# Altium schematic symbol library Memory_Flash.SchLib: 52 symbols
Pins are listed as number, name and electrical type; pins without a type are passive.

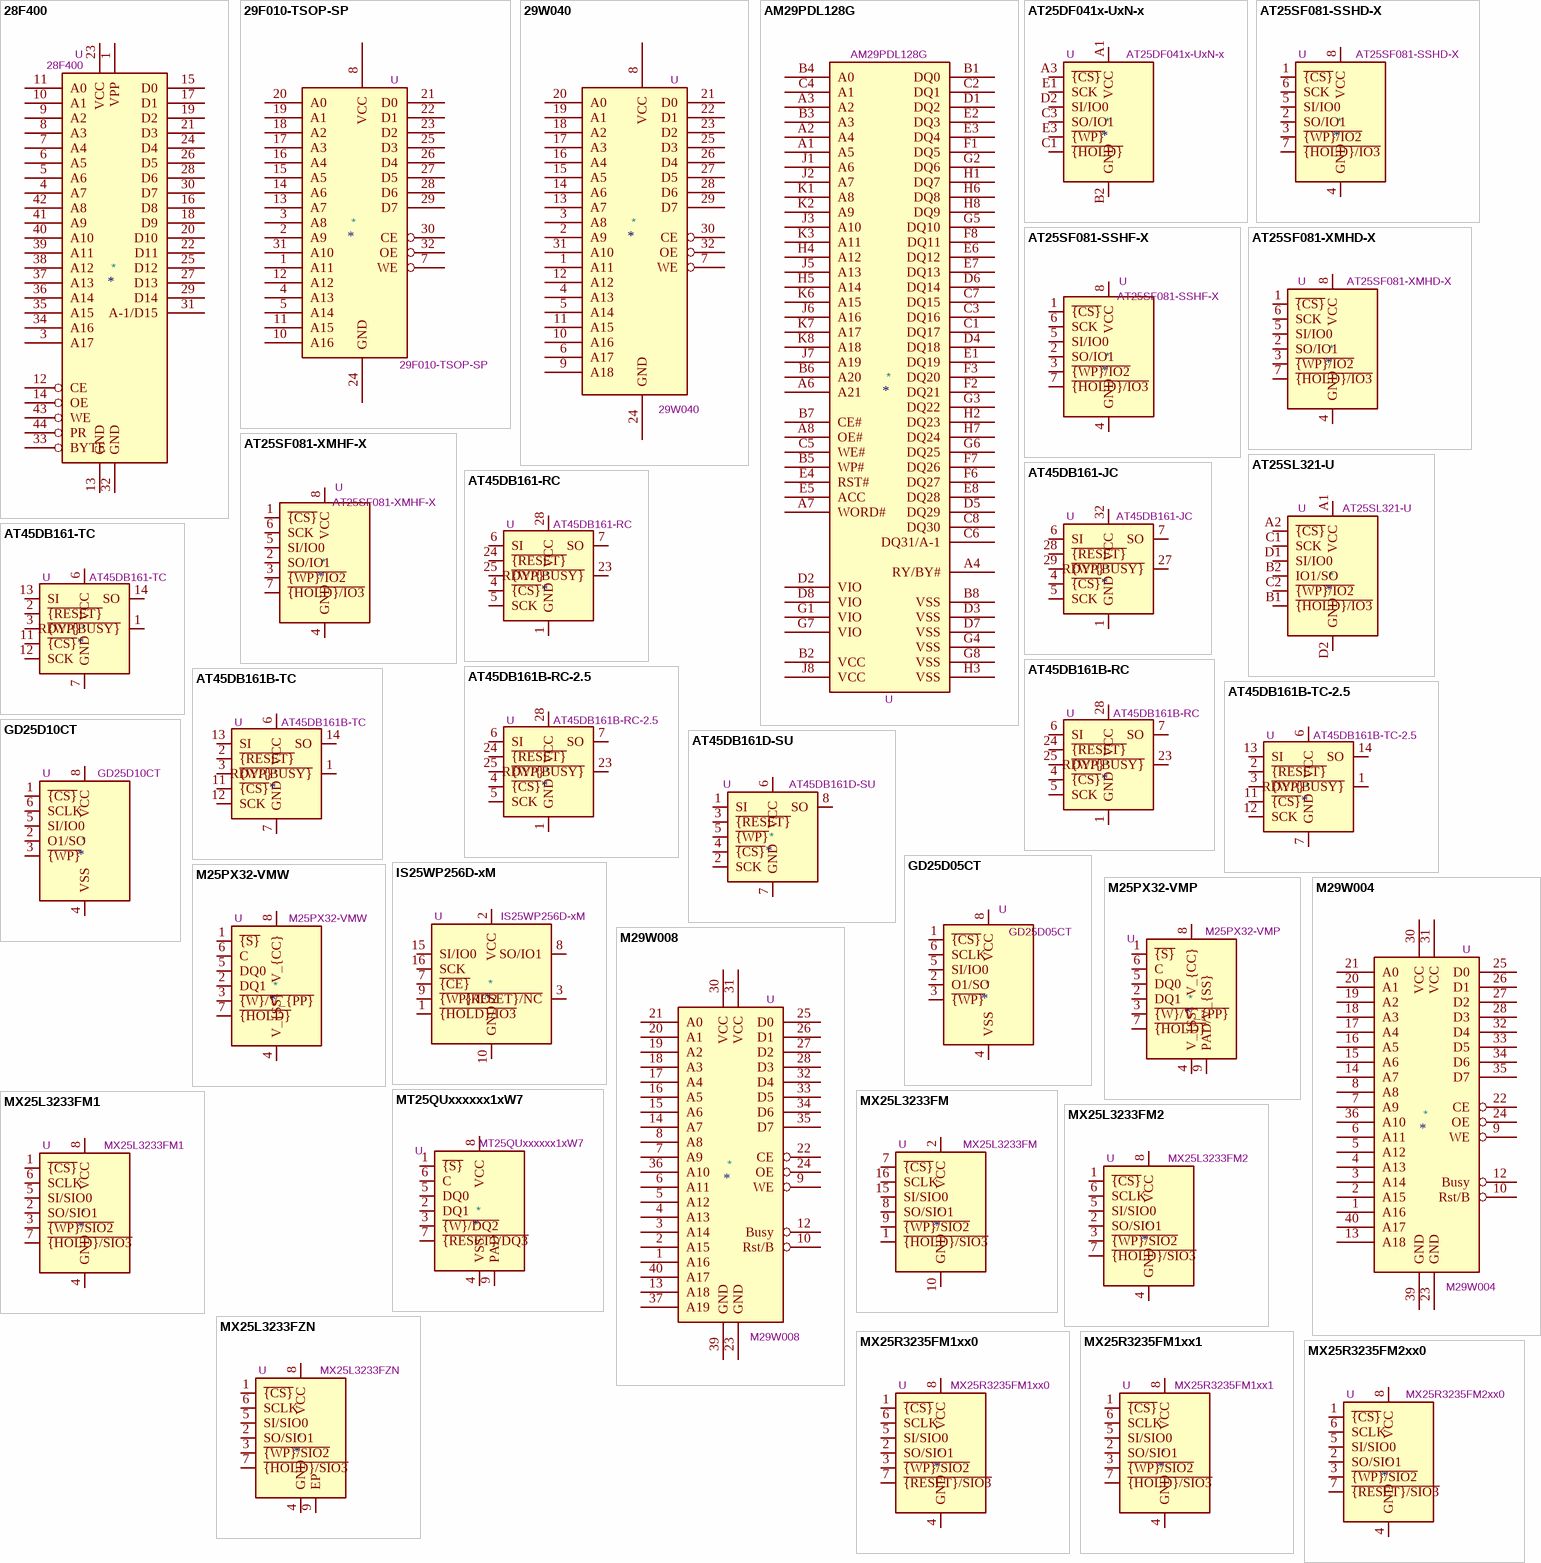
[diagram p0: symbols 28F400 to MX25R3235FM2xx0]

## 28F400
designator *  value 28F400  Reference: U
ki_keywords: EEPROM FLASH 4MO; ki_description: PA28F400BX-T/B Flash EEProm 4-MBIT (256Kx16bits, 512Kx8bits) 5V, 12V Prog; ki_fp_filters: PSOP*; Footprint: Package_SO:PSOP-44_16.9x27.17mm_P1.27mm; Datasheet: http://download.intel.com/design/archives/flash/docs/29045101.pdf
pins: 1 VPP, 2 DU hidden, 3 A17, 4 A7, 5 A6, 6 A5, 7 A4, 8 A3, 9 A2, 10 A1, 11 A0, 12 CE, 13 GND, 14 OE, 15 D0, 16 D8, 17 D1, 18 D9, 19 D2, 20 D10, 21 D3, 22 D11, 23 VCC, 24 D4, 25 D12, 26 D5, 27 D13, 28 D6, 29 D14, 30 D7, 31 A-1/D15, 32 GND, 33 BYTE, 34 A16, 35 A15, 36 A14, 37 A13, 38 A12, 39 A11, 40 A10, 41 A9, 42 A8, 43 WE, 44 PR

## 29F010-TSOP-SP
designator *  value 29F010-TSOP-SP  Reference: U
ki_keywords: EEPROM FLASH 128KO; ki_description: Flash EEProm 128Ko (TSOP 32 pack.) 5V prog
pins: 1 A11, 2 A9, 3 A8, 4 A13, 5 A14, 7 WE, 8 VCC, 10 A16, 11 A15, 12 A12, 13 A7, 14 A6, 15 A5, 16 A4, 17 A3, 18 A2, 19 A1, 20 A0, 21 D0, 22 D1, 23 D2, 24 GND, 25 D3, 26 D4, 27 D5, 28 D6, 29 D7, 30 CE, 31 A10, 32 OE

## 29W040
designator *  value 29W040  Reference: U
ki_keywords: EEPROM FLASH 512KO; ki_description: Flash EEProm 512PP (TSOP 32) 3,3V
pins: 1 A11, 2 A9, 3 A8, 4 A13, 5 A14, 6 A17, 7 WE, 8 VCC, 9 A18, 10 A16, 11 A15, 12 A12, 13 A7, 14 A6, 15 A5, 16 A4, 17 A3, 18 A2, 19 A1, 20 A0, 21 D0, 22 D1, 23 D2, 24 GND, 25 D3, 26 D4, 27 D5, 28 D6, 29 D7, 30 CE, 31 A10, 32 OE

## AM29PDL128G
designator *  value AM29PDL128G  Reference: U
ki_description: 128 Megabit (8 M x 16-Bit/4 M x 32-Bit), Simultaneous Operation Flash Memory with VersatileIO™ Control; ki_fp_filters: BGA80_1mm_15X10
pins: A1 A5, A2 A4, A3 A2, A4 RY/BY#, A6 A21, A7 WORD#, A8 OE#, B1 DQ0, B2 VCC, B3 A3, B4 A0, B5 WP#, B6 A20, B7 CE#, B8 VSS, C1 DQ17, C2 DQ1, C3 DQ16, C4 A1, C5 WE#, C6 DQ31/A-1, C7 DQ15, C8 DQ30, D1 DQ2, D2 VIO, D3 VSS, D4 DQ18, D5 DQ29, D6 DQ14, D7 VSS, D8 VIO, E1 DQ19, E2 DQ3, E3 DQ4, E4 RST#, E5 ACC, E6 DQ12, E7 DQ13, E8 DQ28, F1 DQ5, F2 DQ21, F3 DQ20, F6 DQ27, F7 DQ26, F8 DQ11, G1 VIO, G2 DQ6, G3 DQ22, G4 VSS, G5 DQ10, G6 DQ25, G7 VIO, G8 VSS, H1 DQ7, H2 DQ23, H3 VSS, H4 A12, H5 A14, H6 DQ8, H7 DQ24, H8 DQ9, J1 A6, J2 A7, J3 A10, J5 A13, J6 A16, J7 A19, J8 VCC, K1 A8, K2 A9, K3 A11, K6 A15, K7 A17, K8 A18

## AT25DF041x-UxN-x
designator *  value AT25DF041x-UxN-x  Reference: U
ki_keywords: SPI DSPI 4Mbit 1.65V; ki_description: 4-Mbit, 1.65V Minimum SPI Serial Flash Memory with Dual-I/O, WLCSP-8; ki_fp_filters: WLCSP?8*1.58x1.63*Layout3x5*P0.35x0.4mm*Ball0.25mm*; Footprint: Package_CSP:WLCSP-8_1.58x1.63x0.35mm_Layout3x5_P0.35x0.4mm_Ball0.25mm_Pad0.25mm_NSMD; Datasheet: http://www.adestotech.com/wp-content/uploads/DS-AT25DF041B_040.pdf
pins: A1 VCC, A3 ~{{CS}}, B2 GND, C1 ~{{HOLD}}, C3 SO/IO1, D2 SI/IO0, E1 SCK, E3 ~{{WP}}

## AT25SF081-SSHD-X
designator *  value AT25SF081-SSHD-X  Reference: U
ki_keywords: SPI DSPI QSPI 8Mbit 2.5V; ki_description: 8-Mbit, 2.5V Minimum SPI Serial Flash Memory with Dual-I/O and Quad-I/O Support, SOIC-8; ki_fp_filters: SOIC?8*3.9x4.9mm*P1.27mm*; Footprint: Package_SO:SOIC-8_3.9x4.9mm_P1.27mm; Datasheet: https://www.adestotech.com/wp-content/uploads/DS-AT25SF081_045.pdf
pins: 1 ~{{CS}}, 2 SO/IO1, 3 ~{{WP}/IO2}, 4 GND, 5 SI/IO0, 6 SCK, 7 ~{{HOLD}/IO3}, 8 VCC

## AT25SF081-SSHF-X
designator *  value AT25SF081-SSHF-X  Reference: U
ki_keywords: SPI DSPI QSPI 8Mbit 2.3V; ki_description: 8-Mbit, 2.3V Minimum SPI Serial Flash Memory with Dual-I/O and Quad-I/O Support, SOIC-8; ki_fp_filters: SOIC?8*3.9x4.9mm*P1.27mm*; Footprint: Package_SO:SOIC-8_3.9x4.9mm_P1.27mm; Datasheet: https://www.adestotech.com/wp-content/uploads/DS-AT25SF081_045.pdf
pins: 1 ~{{CS}}, 2 SO/IO1, 3 ~{{WP}/IO2}, 4 GND, 5 SI/IO0, 6 SCK, 7 ~{{HOLD}/IO3}, 8 VCC

## AT25SF081-XMHD-X
designator *  value AT25SF081-XMHD-X  Reference: U
ki_keywords: SPI DSPI QSPI 8Mbit 2.5V; ki_description: 8-Mbit, 2.5V Minimum SPI Serial Flash Memory with Dual-I/O and Quad-I/O Support, TSSOP-8; ki_fp_filters: TSSOP?8*4.4x3mm*P0.65mm*; Footprint: Package_SO:TSSOP-8_4.4x3mm_P0.65mm; Datasheet: https://www.adestotech.com/wp-content/uploads/DS-AT25SF081_045.pdf
pins: 1 ~{{CS}}, 2 SO/IO1, 3 ~{{WP}/IO2}, 4 GND, 5 SI/IO0, 6 SCK, 7 ~{{HOLD}/IO3}, 8 VCC

## AT25SF081-XMHF-X
designator *  value AT25SF081-XMHF-X  Reference: U
ki_keywords: SPI DSPI QSPI 8Mbit 2.3V; ki_description: 8-Mbit, 2.3V Minimum SPI Serial Flash Memory with Dual-I/O and Quad-I/O Support, TSSOP-8; ki_fp_filters: TSSOP?8*4.4x3mm*P0.65mm*; Footprint: Package_SO:TSSOP-8_4.4x3mm_P0.65mm; Datasheet: https://www.adestotech.com/wp-content/uploads/DS-AT25SF081_045.pdf
pins: 1 ~{{CS}}, 2 SO/IO1, 3 ~{{WP}/IO2}, 4 GND, 5 SI/IO0, 6 SCK, 7 ~{{HOLD}/IO3}, 8 VCC

## AT25SL321-U
designator *  value AT25SL321-U  Reference: U
ki_keywords: SPI DSPI QSPI 32Mbit 1.7V; ki_description: 32-Mbit, 1.7V 2.5V Minimum SPI Serial Flash Memory with Dual-I/O and Quad-I/O Support, WLCSP-8; ki_fp_filters: WLCSP*1.551x2.284mm*P0.5mm*; Footprint: Package_CSP:WLCSP-8_1.551x2.284mm_P0.5mm; Datasheet: https://www.adestotech.com/wp-content/uploads/AT25SL321_112.pdf
pins: A1 VCC, A2 ~{{CS}}, B1 ~{{HOLD}/IO3}, B2 IO1/SO, C1 SCK, C2 ~{{WP}/IO2}, D1 SI/IO0, D2 GND

## AT45DB161-JC
designator *  value AT45DB161-JC  Reference: U
ki_keywords: Atmel DataFlash; ki_description: 16Mb Serial DataFlash, 2.7V Vcc, PLCC-32; ki_fp_filters: PLCC?32*11.4x14.0mm*P1.27mm*; Footprint: Package_LCC:PLCC-32_11.4x14.0mm_P1.27mm; Datasheet: http://ww1.microchip.com/downloads/en/devicedoc/doc0807.pdf
pins: 1 GND, 4 ~{{CS}}, 5 SCK, 6 SI, 7 SO, 27 RDY/~{{BUSY}}, 28 ~{{RESET}}, 29 ~{{WP}}, 32 VCC

## AT45DB161-RC
designator *  value AT45DB161-RC  Reference: U
ki_keywords: Atmel DataFlash; ki_description: 16Mb Serial DataFlash, 2.7V Vcc, SOIC-28; ki_fp_filters: SOIC?28*8.7x18.25mm*P1.27mm*; Footprint: Package_SO:SOIC-28W_8.7x18.25mm_P1.27mm; Datasheet: http://ww1.microchip.com/downloads/en/devicedoc/doc0807.pdf
pins: 1 GND, 4 ~{{CS}}, 5 SCK, 6 SI, 7 SO, 23 RDY/~{{BUSY}}, 24 ~{{RESET}}, 25 ~{{WP}}, 28 VCC

## AT45DB161-TC
designator *  value AT45DB161-TC  Reference: U
ki_keywords: Atmel DataFlash; ki_description: 16Mb Serial DataFlash, 2.7V Vcc, TSOP-28; ki_fp_filters: TSOP?28*11.8x8mm*P0.55mm*; Footprint: Package_SO:TSOP-28_11.8x8mm_P0.55mm; Datasheet: http://ww1.microchip.com/downloads/en/devicedoc/doc0807.pdf
pins: 1 RDY/~{{BUSY}}, 2 ~{{RESET}}, 3 ~{{WP}}, 6 VCC, 7 GND, 11 ~{{CS}}, 12 SCK, 13 SI, 14 SO

## AT45DB161B-RC
designator *  value AT45DB161B-RC  Reference: U
ki_keywords: Atmel DataFlash; ki_description: 16Mb Serial DataFlash, 2.7V Vcc, SOIC-28; ki_fp_filters: SOIC?28*8.7x18.25mm*P1.27mm*; Footprint: Package_SO:SOIC-28W_8.7x18.25mm_P1.27mm; Datasheet: http://ww1.microchip.com/downloads/en/devicedoc/doc2224.pdf
pins: 1 GND, 4 ~{{CS}}, 5 SCK, 6 SI, 7 SO, 23 RDY/~{{BUSY}}, 24 ~{{RESET}}, 25 ~{{WP}}, 28 VCC

## AT45DB161B-RC-2.5
designator *  value AT45DB161B-RC-2.5  Reference: U
ki_keywords: Atmel DataFlash; ki_description: 16Mb Serial DataFlash, 2.5V Vcc, SOIC-28; ki_fp_filters: SOIC?28*8.7x18.25mm*P1.27mm*; Footprint: Package_SO:SOIC-28W_8.7x18.25mm_P1.27mm; Datasheet: http://ww1.microchip.com/downloads/en/devicedoc/doc2224.pdf
pins: 1 GND, 4 ~{{CS}}, 5 SCK, 6 SI, 7 SO, 23 RDY/~{{BUSY}}, 24 ~{{RESET}}, 25 ~{{WP}}, 28 VCC

## AT45DB161B-TC
designator *  value AT45DB161B-TC  Reference: U
ki_keywords: Atmel DataFlash; ki_description: 16Mb Serial DataFlash, 2.7V Vcc, TSOP-28; ki_fp_filters: TSOP?28*11.8x8mm*P0.55mm*; Footprint: Package_SO:TSOP-28_11.8x8mm_P0.55mm; Datasheet: http://ww1.microchip.com/downloads/en/devicedoc/doc2224.pdf
pins: 1 RDY/~{{BUSY}}, 2 ~{{RESET}}, 3 ~{{WP}}, 6 VCC, 7 GND, 11 ~{{CS}}, 12 SCK, 13 SI, 14 SO

## AT45DB161B-TC-2.5
designator *  value AT45DB161B-TC-2.5  Reference: U
ki_keywords: Atmel DataFlash; ki_description: 16Mb Serial DataFlash, 2.5V Vcc, TSOP-28; ki_fp_filters: TSOP?28*11.8x8mm*P0.55mm*; Footprint: Package_SO:TSOP-28_11.8x8mm_P0.55mm; Datasheet: http://ww1.microchip.com/downloads/en/devicedoc/doc2224.pdf
pins: 1 RDY/~{{BUSY}}, 2 ~{{RESET}}, 3 ~{{WP}}, 6 VCC, 7 GND, 11 ~{{CS}}, 12 SCK, 13 SI, 14 SO

## AT45DB161D-SU
designator *  value AT45DB161D-SU  Reference: U
ki_keywords: Adesto Flash Memory DataFlash; ki_description: 16Mb Serial DataFlash, 2.5V Vcc, SOIC-8; ki_fp_filters: SOIC*P1.27mm*; Footprint: Package_SO:SOIC-8_5.275x5.275mm_P1.27mm; Datasheet: https://www.adestotech.com/wp-content/uploads/doc3500.pdf
pins: 1 SI, 2 SCK, 3 ~{{RESET}}, 4 ~{{CS}}, 5 ~{{WP}}, 6 VCC, 7 GND, 8 SO

## GD25D05CT
designator *  value GD25D05CT  Reference: U
ki_keywords: SPI DSPI QSPI 512Kbit 3.0V; ki_description: 512kbit, 3.0V Standard and Dual Serial Flash, SOP-8; ki_fp_filters: SOP*3.9x4.9mm*P1.27mm*; Footprint: Package_SO:SOP-8_3.9x4.9mm_P1.27mm; Datasheet: http://www.elm-tech.com/en/products/spi-flash-memory/gd25d10/gd25d10.pdf
pins: 1 ~{{CS}}, 2 O1/SO, 3 ~{{WP}}, 4 VSS, 5 SI/IO0, 6 SCLK, 7 NC hidden, 8 VCC

## GD25D10CT
designator *  value GD25D10CT  Reference: U
ki_keywords: SPI DSPI QSPI 1Mbit 3.0V; ki_description: 1Mbit, 3.0V Standard and Dual Serial Flash, SOP-8; ki_fp_filters: SOP*3.9x4.9mm*P1.27mm*; Footprint: Package_SO:SOP-8_3.9x4.9mm_P1.27mm; Datasheet: http://www.elm-tech.com/en/products/spi-flash-memory/gd25d10/gd25d10.pdf
pins: 1 ~{{CS}}, 2 O1/SO, 3 ~{{WP}}, 4 VSS, 5 SI/IO0, 6 SCLK, 7 NC hidden, 8 VCC

## IS25WP256D-xM
designator *  value IS25WP256D-xM  Reference: U
ki_keywords: SPI DSPI QSPI NOR 256Mbit 1.8V; ki_description: 256-Mbit, 1.8V SPI Serial Flash Memory with Dual-I/O and Quad-I/O Support, SOIC-16; ki_fp_filters: SOIC*7.5x10.3mm*P1.27mm*; Footprint: Package_SO:SOIC-16W_7.5x10.3mm_P1.27mm; Datasheet: http://www.issi.com/WW/pdf/IS25LP(WP)256D.pdf
pins: 1 ~{{HOLD}/IO3}, 2 VCC, 3 ~{{RESET}/NC}, 4 NC hidden, 5 NC hidden, 6 NC hidden, 7 ~{{CE}}, 8 SO/IO1, 9 ~{{WP}/IO2}, 10 GND, 11 NC hidden, 12 NC hidden, 13 NC hidden, 14 NC hidden, 15 SI/IO0, 16 SCK

## M25PX32-VMP
designator *  value M25PX32-VMP  Reference: U
ki_keywords: NOR Serial Flash Embedded Memory; ki_description: 32Mb, Dual I/O, 4KB Subsector Erase, 3V Serial Flash Memory with 75 MHz SPI Bus Interface, DFN-8; ki_fp_filters: DFN*6x5mm*P1.27mm*; Footprint: Package_DFN_QFN:DFN-S-8-1EP_6x5mm_P1.27mm; Datasheet: https://www.mouser.de/datasheet/2/671/M25PX32-1282938.pdf
pins: 1 ~{{S}}, 2 DQ1, 3 ~{{W}/V_{PP}}, 4 V_{SS}, 5 DQ0, 6 C, 7 ~{{HOLD}}, 8 V_{CC}, 9 PAD/V_{SS}

## M25PX32-VMW
designator *  value M25PX32-VMW  Reference: U
ki_keywords: NOR Serial Flash Embedded Memory; ki_description: 32Mb, Dual I/O, 4KB Subsector Erase, 3V Serial Flash Memory with 75 MHz SPI Bus Interface, SOIC-8W; ki_fp_filters: SOIC*5.3x5.3mm*P1.27mm*; Footprint: Package_SO:SOIC-8W_5.3x5.3mm_P1.27mm; Datasheet: https://www.mouser.de/datasheet/2/671/M25PX32-1282938.pdf
pins: 1 ~{{S}}, 2 DQ1, 3 ~{{W}/V_{PP}}, 4 V_{SS}, 5 DQ0, 6 C, 7 ~{{HOLD}}, 8 V_{CC}

## M29W004
designator *  value M29W004  Reference: U
ki_keywords: EEPROM FLASH 512KO; ki_description: Flash EEProm 512Ko (TSOP 40 pack.) 3,3V
pins: 1 A16, 2 A15, 3 A14, 4 A13, 5 A12, 6 A11, 7 A9, 8 A8, 9 WE, 10 Rst/B, 12 Busy, 13 A18, 14 A7, 15 A6, 16 A5, 17 A4, 18 A3, 19 A2, 20 A1, 21 A0, 22 CE, 23 GND, 24 OE, 25 D0, 26 D1, 27 D2, 28 D3, 30 VCC, 31 VCC, 32 D4, 33 D5, 34 D6, 35 D7, 36 A10, 39 GND, 40 A17

## M29W008
designator *  value M29W008  Reference: U
ki_keywords: EEPROM FLASH 1MO; ki_description: Flash EEProm 1MO (TSOP 40 pack.) 3,3V
pins: 1 A16, 2 A15, 3 A14, 4 A13, 5 A12, 6 A11, 7 A9, 8 A8, 9 WE, 10 Rst/B, 12 Busy, 13 A18, 14 A7, 15 A6, 16 A5, 17 A4, 18 A3, 19 A2, 20 A1, 21 A0, 22 CE, 23 GND, 24 OE, 25 D0, 26 D1, 27 D2, 28 D3, 30 VCC, 31 VCC, 32 D4, 33 D5, 34 D6, 35 D7, 36 A10, 37 A19, 39 GND, 40 A17

## MT25QUxxxxxx1xW7
designator *  value MT25QUxxxxxx1xW7  Reference: U
ki_keywords: Flash SPI DSPI QSPI 128Mbit 256Mbit 512Mbit 1Gbit 2Gbit 1.8V; ki_description: Micron 128M/256M/512M/1G/2Gbit, 1.8V Multiple I/O Serial NOR Flash Memory, W-PDFN-8; ki_fp_filters: *DFN*6x5mm*P1.27mm*EP3x3mm*; Footprint: Package_DFN_QFN:W-PDFN-8-1EP_6x5mm_P1.27mm_EP3x3mm; Datasheet: https://media-www.micron.com/-/media/client/global/documents/products/data-sheet/nor-flash/serial-nor/mt25q/die-rev-a/mt25q_qljs_u_256_aba_0.pdf
pins: 1 ~{{S}}, 2 DQ1, 3 ~{{W}/DQ2}, 4 VSS, 5 DQ0, 6 C, 7 ~{{RESET}/DQ3}, 8 VCC, 9 PAD

## MX25L3233FM
designator *  value MX25L3233FM  Reference: U
ki_keywords: SPI 32Mbit; ki_description: 32-Mbit, 3V (2.65V-3.6V) SPI Serial Flash Memory, SOIC-16; ki_fp_filters: SOIC*7.5x10.3mm*P1.27mm*; Footprint: Package_SO:SOIC-16W_7.5x10.3mm_P1.27mm; Datasheet: https://www.macronix.com/Lists/Datasheet/Attachments/8377/MX25L3233F,%203V,%2032Mb,%20v1.1.pdf
pins: 1 ~{{HOLD}/SIO3}, 2 VCC, 7 ~{{CS}}, 8 SO/SIO1, 9 ~{{WP}/SIO2}, 10 GND, 15 SI/SIO0, 16 SCLK

## MX25L3233FM1
designator *  value MX25L3233FM1  Reference: U
ki_keywords: SPI 32Mbit; ki_description: 32-Mbit, 3V (2.65V-3.6V) SPI Serial Flash Memory, SOP-8 (150mil); ki_fp_filters: SOP*3.9x4.9mm*P1.27mm*; Footprint: Package_SO:SOP-8_3.9x4.9mm_P1.27mm; Datasheet: https://www.macronix.com/Lists/Datasheet/Attachments/8377/MX25L3233F,%203V,%2032Mb,%20v1.1.pdf
pins: 1 ~{{CS}}, 2 SO/SIO1, 3 ~{{WP}/SIO2}, 4 GND, 5 SI/SIO0, 6 SCLK, 7 ~{{HOLD}/SIO3}, 8 VCC

## MX25L3233FM2
designator *  value MX25L3233FM2  Reference: U
ki_keywords: SPI 32Mbit; ki_description: 32-Mbit, 3V (2.65V-3.6V) SPI Serial Flash Memory, SOP-8 (200mil); ki_fp_filters: SOP*5.28x5.23mm*P1.27mm*; Footprint: Package_SO:SOP-8_5.28x5.23mm_P1.27mm; Datasheet: https://www.macronix.com/Lists/Datasheet/Attachments/8377/MX25L3233F,%203V,%2032Mb,%20v1.1.pdf
pins: 1 ~{{CS}}, 2 SO/SIO1, 3 ~{{WP}/SIO2}, 4 GND, 5 SI/SIO0, 6 SCLK, 7 ~{{HOLD}/SIO3}, 8 VCC

## MX25L3233FZN
designator *  value MX25L3233FZN  Reference: U
ki_keywords: SPI 32Mbit; ki_description: 32-Mbit, 3V (2.65V-3.6V) SPI Serial Flash Memory, WSON-8; ki_fp_filters: WSON*1EP*6x5mm*P1.27mm*; Footprint: Package_SON:WSON-8-1EP_6x5mm_P1.27mm_EP3.4x4mm; Datasheet: https://www.macronix.com/Lists/Datasheet/Attachments/8377/MX25L3233F,%203V,%2032Mb,%20v1.1.pdf
pins: 1 ~{{CS}}, 2 SO/SIO1, 3 ~{{WP}/SIO2}, 4 GND, 5 SI/SIO0, 6 SCLK, 7 ~{{HOLD}/SIO3}, 8 VCC, 9 EP

## MX25R3235FM1xx0
designator *  value MX25R3235FM1xx0  Reference: U
ki_keywords: SPI 32Mbit 1.65V-3.6V; ki_description: 32-Mbit, Wide Range Voltage SPI Serial Flash Memory, SOP-8; ki_fp_filters: SOP*3.9x4.9mm*P1.27mm*; Footprint: Package_SO:SOP-8_3.9x4.9mm_P1.27mm; Datasheet: http://www.macronix.com/Lists/Datasheet/Attachments/7534/MX25R3235F,%20Wide%20Range,%2032Mb,%20v1.6.pdf
pins: 1 ~{{CS}}, 2 SO/SIO1, 3 ~{{WP}/SIO2}, 4 GND, 5 SI/SIO0, 6 SCLK, 7 ~{{RESET}/SIO3}, 8 VCC

## MX25R3235FM1xx1
designator *  value MX25R3235FM1xx1  Reference: U
ki_keywords: SPI 32Mbit 1.65V-3.6V; ki_description: 32-Mbit, Wide Range Voltage SPI Serial Flash Memory, SOP-8; ki_fp_filters: SOP*3.9x4.9mm*P1.27mm*; Footprint: Package_SO:SOP-8_3.9x4.9mm_P1.27mm; Datasheet: https://www.macronix.com/Lists/Datasheet/Attachments/8755/MX25R3235F,%20Wide%20Range,%2032Mb,%20v1.8.pdf
pins: 1 ~{{CS}}, 2 SO/SIO1, 3 ~{{WP}/SIO2}, 4 GND, 5 SI/SIO0, 6 SCLK, 7 ~{{HOLD}/SIO3}, 8 VCC

## MX25R3235FM2xx0
designator *  value MX25R3235FM2xx0  Reference: U
ki_keywords: SPI 32Mbit 1.65V-3.6V; ki_description: 32-Mbit, Wide Range Voltage SPI Serial Flash Memory, SOP-8; ki_fp_filters: SOP*5.28x5.23mm*P1.27mm*; Footprint: Package_SO:SOP-8_5.28x5.23mm_P1.27mm; Datasheet: http://www.macronix.com/Lists/Datasheet/Attachments/7534/MX25R3235F,%20Wide%20Range,%2032Mb,%20v1.6.pdf
pins: 1 ~{{CS}}, 2 SO/SIO1, 3 ~{{WP}/SIO2}, 4 GND, 5 SI/SIO0, 6 SCLK, 7 ~{{RESET}/SIO3}, 8 VCC

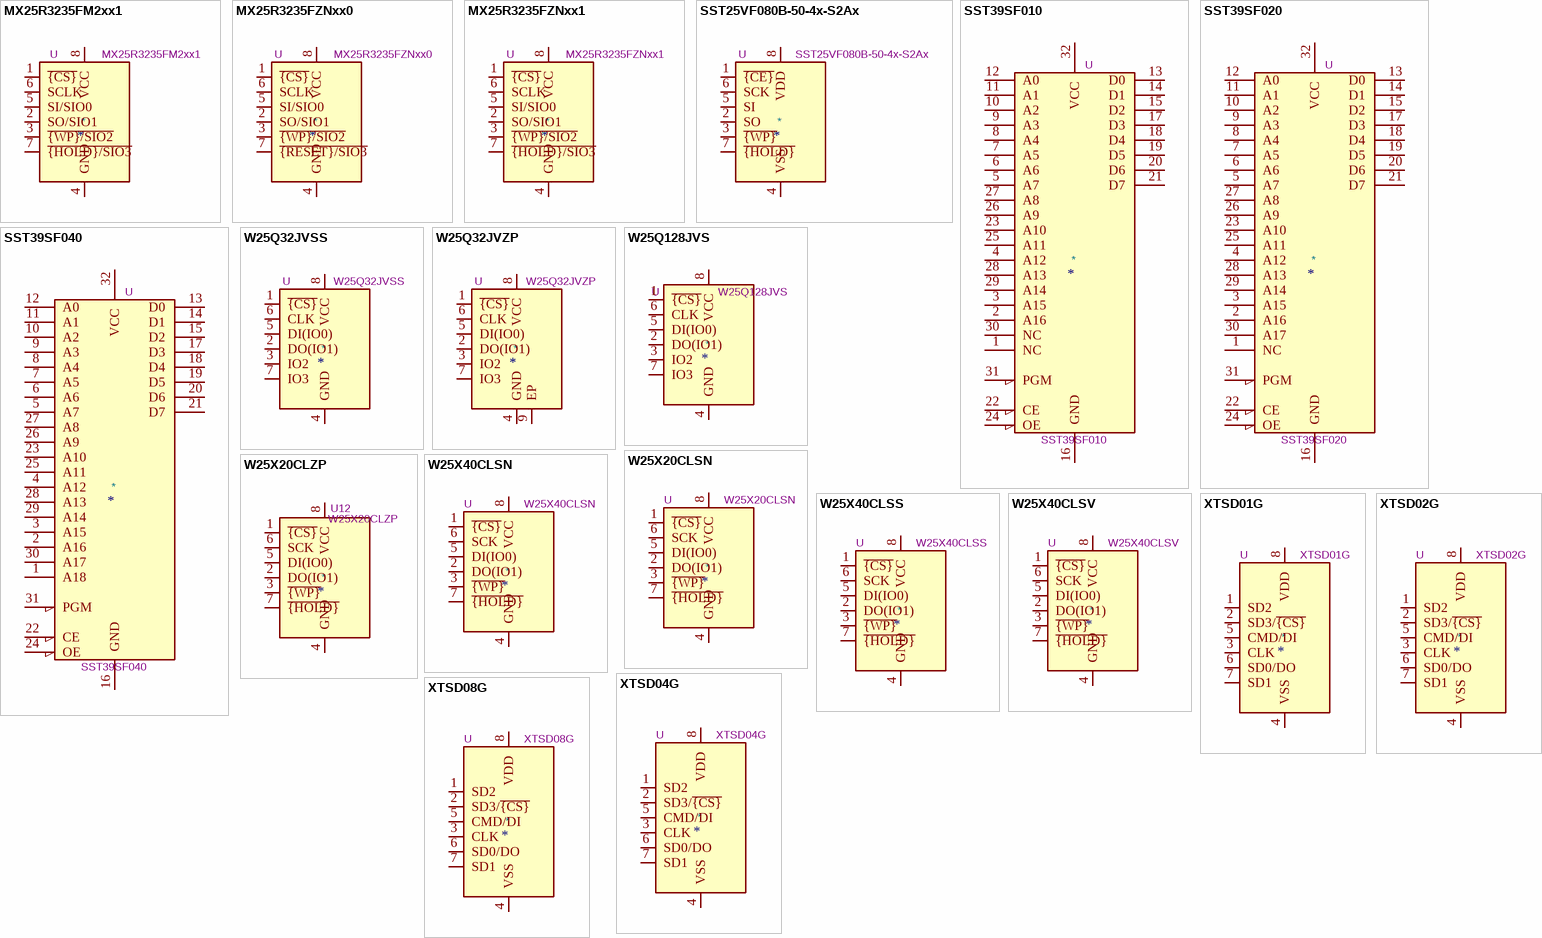
[diagram p1: symbols MX25R3235FM2xx1 to XTSD08G]

## MX25R3235FM2xx1
designator *  value MX25R3235FM2xx1  Reference: U
ki_keywords: SPI 32Mbit 1.65V-3.6V; ki_description: 32-Mbit, Wide Range Voltage SPI Serial Flash Memory, SOP-8; ki_fp_filters: SOP*5.28x5.23mm*P1.27mm*; Footprint: Package_SO:SOP-8_5.28x5.23mm_P1.27mm; Datasheet: http://www.macronix.com/Lists/Datasheet/Attachments/7534/MX25R3235F,%20Wide%20Range,%2032Mb,%20v1.6.pdf
pins: 1 ~{{CS}}, 2 SO/SIO1, 3 ~{{WP}/SIO2}, 4 GND, 5 SI/SIO0, 6 SCLK, 7 ~{{HOLD}/SIO3}, 8 VCC

## MX25R3235FZNxx0
designator *  value MX25R3235FZNxx0  Reference: U
ki_keywords: SPI 32Mbit 1.65V-3.6V; ki_description: 32-Mbit, Wide Range Voltage SPI Serial Flash Memory, WSON-8; ki_fp_filters: WSON*1EP*6x5mm*P1.27mm*; Footprint: Package_SON:WSON-8-1EP_6x5mm_P1.27mm_EP3.4x4mm; Datasheet: http://www.macronix.com/Lists/Datasheet/Attachments/7534/MX25R3235F,%20Wide%20Range,%2032Mb,%20v1.6.pdf
pins: 1 ~{{CS}}, 2 SO/SIO1, 3 ~{{WP}/SIO2}, 4 GND, 5 SI/SIO0, 6 SCLK, 7 ~{{RESET}/SIO3}, 8 VCC, 9 GND hidden

## MX25R3235FZNxx1
designator *  value MX25R3235FZNxx1  Reference: U
ki_keywords: SPI 32Mbit 1.65V-3.6V; ki_description: 32-Mbit, Wide Range Voltage SPI Serial Flash Memory, WSON-8; ki_fp_filters: WSON*1EP*6x5mm*P1.27mm*; Footprint: Package_SON:WSON-8-1EP_6x5mm_P1.27mm_EP3.4x4mm; Datasheet: http://www.macronix.com/Lists/Datasheet/Attachments/7534/MX25R3235F,%20Wide%20Range,%2032Mb,%20v1.6.pdf
pins: 1 ~{{CS}}, 2 SO/SIO1, 3 ~{{WP}/SIO2}, 4 GND, 5 SI/SIO0, 6 SCLK, 7 ~{{HOLD}/SIO3}, 8 VCC, 9 GND hidden

## SST25VF080B-50-4x-S2Ax
designator *  value SST25VF080B-50-4x-S2Ax  Reference: U
ki_keywords: flash memory spi; ki_description: 8-Mbit, 2.7 to 3.6V, SPI Flash Memory, SOIC-8; ki_fp_filters: SOIC*5.275x5.275mm*P1.27mm*; Footprint: Package_SO:SOIC-8_5.275x5.275mm_P1.27mm; Datasheet: http://ww1.microchip.com/downloads/en/DeviceDoc/20005045C.pdf
pins: 1 ~{{CE}}, 2 SO, 3 ~{{WP}}, 4 VSS, 5 SI, 6 SCK, 7 ~{{HOLD}}, 8 VDD

## SST39SF010
designator *  value SST39SF010  Reference: U
ki_keywords: 128k flash rom; ki_description: Silicon Storage Technology (SSF) 128k x 8 Flash ROM; Datasheet: http://ww1.microchip.com/downloads/en/DeviceDoc/25022B.pdf
pins: 1 NC, 2 A16, 3 A15, 4 A12, 5 A7, 6 A6, 7 A5, 8 A4, 9 A3, 10 A2, 11 A1, 12 A0, 13 D0, 14 D1, 15 D2, 16 GND, 17 D3, 18 D4, 19 D5, 20 D6, 21 D7, 22 CE, 23 A10, 24 OE, 25 A11, 26 A9, 27 A8, 28 A13, 29 A14, 30 NC, 31 PGM, 32 VCC

## SST39SF020
designator *  value SST39SF020  Reference: U
ki_keywords: 256k flash rom; ki_description: Silicon Storage Technology (SSF) 256k x 8 Flash ROM; Datasheet: http://ww1.microchip.com/downloads/en/DeviceDoc/25022B.pdf
pins: 1 NC, 2 A16, 3 A15, 4 A12, 5 A7, 6 A6, 7 A5, 8 A4, 9 A3, 10 A2, 11 A1, 12 A0, 13 D0, 14 D1, 15 D2, 16 GND, 17 D3, 18 D4, 19 D5, 20 D6, 21 D7, 22 CE, 23 A10, 24 OE, 25 A11, 26 A9, 27 A8, 28 A13, 29 A14, 30 A17, 31 PGM, 32 VCC

## SST39SF040
designator *  value SST39SF040  Reference: U
ki_keywords: 512k flash rom; ki_description: Silicon Storage Technology (SSF) 512k x 8 Flash ROM; Datasheet: http://ww1.microchip.com/downloads/en/DeviceDoc/25022B.pdf
pins: 1 A18, 2 A16, 3 A15, 4 A12, 5 A7, 6 A6, 7 A5, 8 A4, 9 A3, 10 A2, 11 A1, 12 A0, 13 D0, 14 D1, 15 D2, 16 GND, 17 D3, 18 D4, 19 D5, 20 D6, 21 D7, 22 CE, 23 A10, 24 OE, 25 A11, 26 A9, 27 A8, 28 A13, 29 A14, 30 A17, 31 PGM, 32 VCC

## W25Q32JVSS
designator *  value W25Q32JVSS  Reference: U
ki_keywords: flash memory SPI; ki_description: 32Mb Serial Flash Memory, Standard/Dual/Quad SPI, SOIC-8; ki_fp_filters: SOIC*5.23x5.23mm*P1.27mm*; Footprint: Package_SO:SOIC-8_5.23x5.23mm_P1.27mm; Datasheet: http://www.winbond.com/resource-files/w25q32jv%20revg%2003272018%20plus.pdf
pins: 1 ~{{CS}}, 2 DO(IO1), 3 IO2, 4 GND, 5 DI(IO0), 6 CLK, 7 IO3, 8 VCC

## W25Q32JVZP
designator *  value W25Q32JVZP  Reference: U
ki_keywords: flash memory SPI; ki_description: 32Mb Serial Flash Memory, Standard/Dual/Quad SPI, DFN-8; ki_fp_filters: WSON*1EP*6x5mm*P1.27mm*; Footprint: Package_SON:WSON-8-1EP_6x5mm_P1.27mm_EP3.4x4.3mm; Datasheet: http://www.winbond.com/resource-files/w25q32jv%20revg%2003272018%20plus.pdf
pins: 1 ~{{CS}}, 2 DO(IO1), 3 IO2, 4 GND, 5 DI(IO0), 6 CLK, 7 IO3, 8 VCC, 9 EP

## W25Q128JVS
designator *  value W25Q128JVS  Reference: U
ki_keywords: flash memory SPI QPI DTR; ki_description: 128Mb Serial Flash Memory, Standard/Dual/Quad SPI, SOIC-8; ki_fp_filters: SOIC*5.23x5.23mm*P1.27mm*; Footprint: Package_SO:SOIC-8_5.23x5.23mm_P1.27mm; Datasheet: http://www.winbond.com/resource-files/w25q128jv_dtr%20revc%2003272018%20plus.pdf
pins: 1 ~{{CS}}, 2 DO(IO1), 3 IO2, 4 GND, 5 DI(IO0), 6 CLK, 7 IO3, 8 VCC

## W25X20CLSN
designator *  value W25X20CLSN  Reference: U
ki_keywords: Memory Flash SPI; ki_description: 2Mbit Serial Flash memory, dual I/O SPI, SOIC-8; ki_fp_filters: SOIC*3.9x4.9mm*P1.27mm*; Footprint: Package_SO:SOIC-8_3.9x4.9mm_P1.27mm; Datasheet: https://www.winbond.com/resource-files/w25x20cl_revf%2020150806.pdf
pins: 1 ~{{CS}}, 2 DO(IO1), 3 ~{{WP}}, 4 GND, 5 DI(IO0), 6 SCK, 7 ~{{HOLD}}, 8 VCC

## W25X20CLZP
designator *  value W25X20CLZP  Reference: U12
ki_keywords: Memory Flash SPI; ki_description: 2Mbit Serial Flash memory, dual I/O SPI, WSON-8; ki_fp_filters: WSON*8*; Footprint: Package_SON:WSON-8-1EP_6x5mm_P1.27mm_EP3.4x4.3mm; Datasheet: https://www.winbond.com/resource-files/w25x20cl_revf%2020150806.pdf
pins: 1 ~{{CS}}, 2 DO(IO1), 3 ~{{WP}}, 4 GND, 5 DI(IO0), 6 SCK, 7 ~{{HOLD}}, 8 VCC

## W25X40CLSN
designator *  value W25X40CLSN  Reference: U
ki_keywords: Memory Flash SPI; ki_description: 4Mbit Serial Flash memory, dual I/O SPI, SOIC-8; ki_fp_filters: SOIC*3.9x4.9mm*P1.27mm*; Footprint: Package_SO:SOIC-8_3.9x4.9mm_P1.27mm; Datasheet: https://www.winbond.com/resource-files/W25X40CL_G%2020210505.pdf
pins: 1 ~{{CS}}, 2 DO(IO1), 3 ~{{WP}}, 4 GND, 5 DI(IO0), 6 SCK, 7 ~{{HOLD}}, 8 VCC

## W25X40CLSS
designator *  value W25X40CLSS  Reference: U
ki_keywords: Memory Flash SPI; ki_description: 4Mbit Serial Flash memory, dual I/O SPI, SOIC-8 208mil; ki_fp_filters: SOIC*5.275x5.275mm*P1.27mm*; Footprint: Package_SO:SOIC-8_5.275x5.275mm_P1.27mm; Datasheet: https://www.winbond.com/resource-files/W25X40CL_G%2020210505.pdf
pins: 1 ~{{CS}}, 2 DO(IO1), 3 ~{{WP}}, 4 GND, 5 DI(IO0), 6 SCK, 7 ~{{HOLD}}, 8 VCC

## W25X40CLSV
designator *  value W25X40CLSV  Reference: U
ki_keywords: Memory Flash SPI; ki_description: 4Mbit Serial Flash memory, dual I/O SPI, VSOP-8; ki_fp_filters: SOP*3.9x4.9mm*P1.27mm*; Footprint: Package_SO:SOP-8_3.9x4.9mm_P1.27mm; Datasheet: https://www.winbond.com/resource-files/W25X40CL_G%2020210505.pdf
pins: 1 ~{{CS}}, 2 DO(IO1), 3 ~{{WP}}, 4 GND, 5 DI(IO0), 6 SCK, 7 ~{{HOLD}}, 8 VCC

## XTSD01G
designator *  value XTSD01G  Reference: U
ki_keywords: 50MHz 1Gbit NAND FLASH SD2.0; ki_description: 1Gbit NAND flash compliant with SD2.0 interface, 50Mhz 3.3V, LGA-8; ki_fp_filters: *LGA*8x6mm*P1.27mm*; Footprint: Package_LGA:LGA-8_8x6mm_P1.27mm; Datasheet: https://datasheet.lcsc.com/lcsc/2005251034_XTX-XTSD08GLGEAG_C558840.pdf
pins: 1 SD2, 2 SD3/~{{CS}}, 3 CLK, 4 VSS, 5 CMD/DI, 6 SD0/DO, 7 SD1, 8 VDD

## XTSD02G
designator *  value XTSD02G  Reference: U
ki_keywords: 50MHz 2Gbit NAND FLASH SD2.0; ki_description: 2Gbit NAND flash compliant with SD2.0 interface, 50Mhz 3.3V, LGA-8; ki_fp_filters: *LGA*8x6mm*P1.27mm*; Footprint: Package_LGA:LGA-8_8x6mm_P1.27mm; Datasheet: https://datasheet.lcsc.com/lcsc/2005251034_XTX-XTSD08GLGEAG_C558840.pdf
pins: 1 SD2, 2 SD3/~{{CS}}, 3 CLK, 4 VSS, 5 CMD/DI, 6 SD0/DO, 7 SD1, 8 VDD

## XTSD04G
designator *  value XTSD04G  Reference: U
ki_keywords: 50MHz 4Gbit NAND FLASH SD2.0; ki_description: 4Gbit NAND flash compliant with SD2.0 interface, 50Mhz 3.3V, LGA-8; ki_fp_filters: *LGA*8x6mm*P1.27mm*; Footprint: Package_LGA:LGA-8_8x6mm_P1.27mm; Datasheet: https://datasheet.lcsc.com/lcsc/2005251034_XTX-XTSD08GLGEAG_C558840.pdf
pins: 1 SD2, 2 SD3/~{{CS}}, 3 CLK, 4 VSS, 5 CMD/DI, 6 SD0/DO, 7 SD1, 8 VDD

## XTSD08G
designator *  value XTSD08G  Reference: U
ki_keywords: 50MHz 8Gbit NAND FLASH SD2.0; ki_description: 8Gbit NAND flash compliant with SD2.0 interface, 50Mhz 3.3V, LGA-8; ki_fp_filters: *LGA*8x6mm*P1.27mm*; Footprint: Package_LGA:LGA-8_8x6mm_P1.27mm; Datasheet: https://datasheet.lcsc.com/lcsc/2005251034_XTX-XTSD08GLGEAG_C558840.pdf
pins: 1 SD2, 2 SD3/~{{CS}}, 3 CLK, 4 VSS, 5 CMD/DI, 6 SD0/DO, 7 SD1, 8 VDD